# Altium schematic symbol library CE8301.SchLib: 2 symbols
Pins are listed as number, name and electrical type; pins without a type are passive.

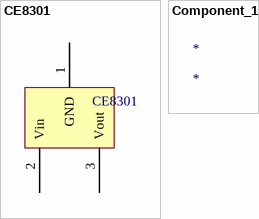
[diagram p0: symbols CE8301 to Component_1]

## CE8301
designator CE8301
pins: 1 GND, 2 Vin, 3 Vout

## Component_1
designator *